# Altium footprint library 频率计.PcbLib: 2 footprints
Each footprint in its own frame and in the unit in brackets; x right, y up, seen from the top. Pads: shape width x height; smd on the part's side, far side on the other; paste and mask are expansions set on the pad; w line width, h text height; cw(c..) or ccw(c..) is an arc to the next point about the centre after c.
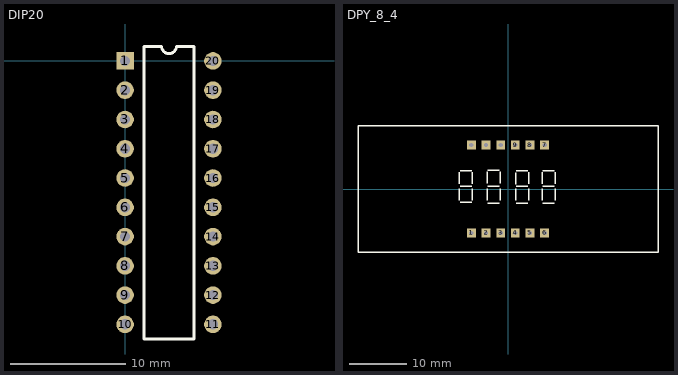
[diagram p0: the footprints below, top view; thin cyan lines are the x and y axes]

## DIP20 [mil]
pads (20):
  rect 60x60 hole 35: 1(0,0)
  round 60 hole 35: 2(0,-100) 3(0,-200) 4(0,-300) 5(0,-400) 6(0,-500) 7(0,-600) 8(0,-700) 9(0,-800) 10(0,-900) 11(300,-900) 12(300,-800) 13(300,-700) 14(300,-600) 15(300,-500) 16(300,-400) 17(300,-300) 18(300,-200) 19(300,-100) 20(300,0)
Top Overlay:
  lines w10: 65,-950 235,-950 235,50 175,50 cw(c150,50) 125,50 65,50 65,-950

## DPY_8_4 [mil]
pads (12):
  rect 60x60 hole 29.92: 1(-250,-300) 2(-150,-300) 3(-50,-300) 4(50,-300) 5(150,-300) 6(250,-300) 7(250,300) 8(150,300) 9(50,300) 10(-50,300) 11(-150,300) 12(-250,300)
Top Overlay:
  lines w10: -332.76,-75.35 -332.76,3.39 ; -332.76,34.65 -332.76,113.39 ; -326.5,-91.61 -247.76,-91.61 ; -326.5,18.39 -247.76,18.39 ; -326.5,123.39 -247.76,123.39 ; -242.76,-75.35 -242.76,3.39 ; -242.76,34.65 -242.76,113.39 ; -142.76,-75.35 -142.76,3.39 ; -142.76,38.39 -142.76,117.13 ; -137.76,-96.61 -59.02,-96.61 ; -137.76,18.39 -59.02,18.39 ; -137.76,128.39 -59.02,128.39 ; -52.76,-75.35 -52.76,3.39 ; -52.76,39.65 -52.76,118.39 ; 52.24,-75.35 52.24,3.39 ; 52.24,33.39 52.24,112.13 ; 57.24,-96.61 135.98,-96.61 ; 57.24,18.39 135.98,18.39 ; 57.24,123.39 135.98,123.39 ; 142.24,-75.35 142.24,3.39 ; 142.24,34.65 142.24,113.39 ; 232.24,-75.35 232.24,3.39 ; 232.24,34.65 232.24,113.39 ; 237.24,-96.61 315.98,-96.61 ; 237.24,18.39 315.98,18.39 ; 237.24,123.39 315.98,123.39 ; 322.24,-75.35 322.24,3.39 ; 322.24,34.65 322.24,113.39 ; -1023.62,-433.07 1023.62,-433.07 1023.62,433.07 -1023.62,433.07 -1023.62,-433.07